# EAGLE library part Z80 (library ICs)
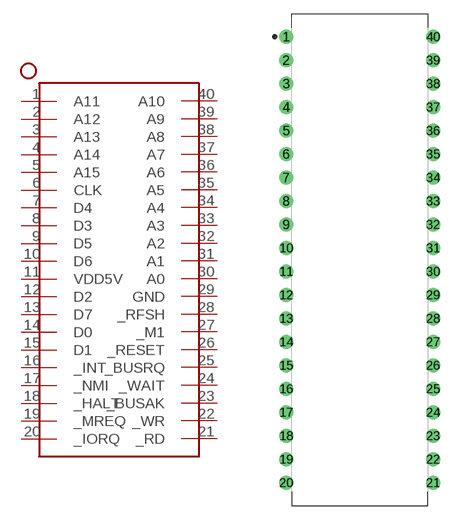
[diagram p21: symbol with the pads of DIP1587W58P254L5175H635Q40B; footprint DIP1587W58P254L5175H635Q40B]

Designator prefix -

## Z80  [DIP1587W58P254L5175H635Q40B]
1  A11
2  A12
3  A13
4  A14
5  A15
6  CLK  in
7  D4
8  D3
9  D5
10  D6
11  VDD5V  pwr
12  D2
13  D7
14  D0
15  D1
16  _INT  in
17  _NMI  in
18  _HALT  out
19  _MREQ  out
20  _IORQ  out
21  _RD  out
22  _WR  out
23  _BUSAK  out
24  _WAIT  in
25  _BUSRQ  in
26  _RESET  in
27  _M1  out
28  _RFSH  out
29  GND  pwr
30  A0
31  A1
32  A2
33  A3
34  A4
35  A5
36  A6
37  A7
38  A8
39  A9
40  A10

## Footprint DIP1587W58P254L5175H635Q40B (pad centres in mm)
40-DIP, 2.54 mm (0.10 in) pitch, 15.88 mm (0.63 in) span, 51.75 X 13.53 X 6.35 mm body 40-pin DIP package with 2.54 mm (0.10 in) pitch, 15.88 mm (0.63 in) span with body size 51.75 X 13.53 X 6.35 mm
drill 0.894 pad 1.494: 1 -7.938,24.13; 2 -7.938,21.59; 3 -7.938,19.05; 4 -7.938,16.51; 5 -7.938,13.97; 6 -7.938,11.43; 7 -7.938,8.89; 8 -7.938,6.35; 9 -7.938,3.81; 10 -7.938,1.27; 11 -7.938,-1.27; 12 -7.938,-3.81; 13 -7.938,-6.35; 14 -7.938,-8.89; 15 -7.938,-11.43; 16 -7.938,-13.97; 17 -7.938,-16.51; 18 -7.938,-19.05; 19 -7.938,-21.59; 20 -7.938,-24.13; 21 7.938,-24.13; 22 7.938,-21.59; 23 7.938,-19.05; 24 7.938,-16.51; 25 7.938,-13.97; 26 7.938,-11.43; 27 7.938,-8.89; 28 7.938,-6.35; 29 7.938,-3.81; 30 7.938,-1.27; 31 7.938,1.27; 32 7.938,3.81; 33 7.938,6.35; 34 7.938,8.89; 35 7.938,11.43; 36 7.938,13.97; 37 7.938,16.51; 38 7.938,19.05; 39 7.938,21.59; 40 7.938,24.13